# EAGLE library part GEMS_POWER_PLUG (library bschulz)
Power Plug For GEMS Based Systems Both Input and Output versions
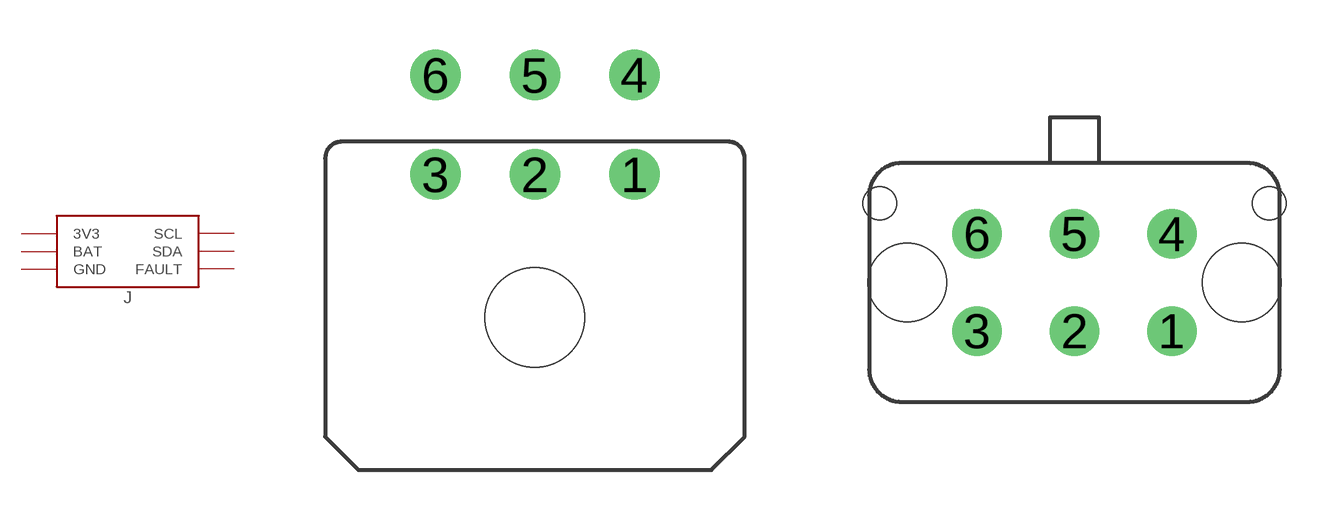
[diagram p135: symbol with the pads of 2X3_MICROFIT_RT; footprints 2X3_MICROFIT_RT, 2X3_MICROFIT]

Designator prefix J

## GEMS_POWER_PLUGINPUT_RT (DIGIKEY: WM1815-ND; DISP: Input; MF: Molex; MPN: 0430450600)  [2X3_MICROFIT_RT]
1  BAT  pwr
2  GND  pwr
3  FAULT
4  SDA
5  3V3  pwr
6  SCL

## GEMS_POWER_PLUGOUTPUT_RT (DIGIKEY: WM1815-ND; DISP: Output; MF: Molex; MPN: 0430450600)  [2X3_MICROFIT_RT]
1  FAULT
2  GND  pwr
3  BAT  pwr
4  SCL
5  3V3  pwr
6  SDA

## GEMS_POWER_PLUGOUTPUT (DIGIKEY: WM4039-ND; MF: Molex; MPN: 0430450624)  [2X3_MICROFIT]
Pads as for 2X3_MICROFIT_RT

## Footprint 2X3_MICROFIT_RT (pad centres in mm)
Molex Micro-Fit, 6 pos, Right Angle Datasheet <https://www.molex.com/pdm_docs/sd/430450600_sd.pdf>
drill 1.02: 1 3,4.32; 2 0,4.32; 3 -3,4.32; 4 3,7.32; 5 0,7.32; 6 -3,7.32
hole 3 at 0,0

## Footprint 2X3_MICROFIT (pad centres in mm)
Molex Micro-Fit, 6 pos Datasheet <https://www.molex.com/pdm_docs/sd/430450624_sd.pdf>
drill 1.02: 1 3,-1.5; 2 0,-1.5; 3 -3,-1.5; 4 3,1.5; 5 0,1.5; 6 -3,1.5
hole 2.41 at 5.15,0
hole 2.41 at -5.15,0
hole 1.02 at 6,2.44
hole 1.02 at -6,2.44